# EAGLE library part HEADER_24P (library Bauteile)
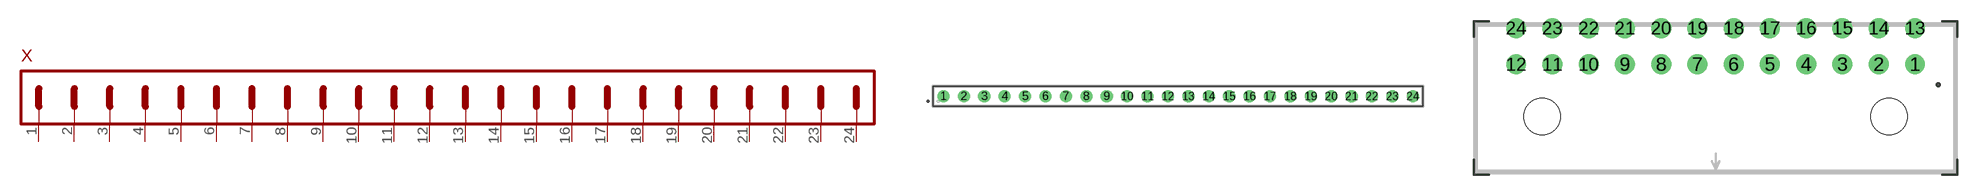
[diagram p76: symbol with the pads of HEADER_24P_1ROW_RM2.54MM_THT; footprints HEADER_24P_1ROW_RM2.54MM_THT, MOLEX_MICROFIT_3.0_43045-2400]

Designator prefix X

## HEADER_24P(RM2.54MM_1ROW_THT)  [HEADER_24P_1ROW_RM2.54MM_THT]
1  PIN1
2  PIN2
3  PIN3
4  PIN4
5  PIN5
6  PIN6
7  PIN7
8  PIN8
9  PIN9
10  PIN10
11  PIN11
12  PIN12
13  PIN13
14  PIN14
15  PIN15
16  PIN16
17  PIN17
18  PIN18
19  PIN19
20  PIN20
21  PIN21
22  PIN22
23  PIN23
24  PIN24

## HEADER_24P(MOLEX_MICROFIT_3.0_ANGLED) (ID: 43045-2400)  [MOLEX_MICROFIT_3.0_43045-2400]
Pads as for HEADER_24P_1ROW_RM2.54MM_THT

## Footprint HEADER_24P_1ROW_RM2.54MM_THT (pad centres in mm)
drill 1: 1 -29.21,0; 2 -26.67,0; 3 -24.13,0; 4 -21.59,0; 5 -19.05,0; 6 -16.51,0; 7 -13.97,0; 8 -11.43,0; 9 -8.89,0; 10 -6.35,0; 11 -3.81,0; 12 -1.27,0; 13 1.27,0; 14 3.81,0; 15 6.35,0; 16 8.89,0; 17 11.43,0; 18 13.97,0; 19 16.51,0; 20 19.05,0; 21 21.59,0; 22 24.13,0; 23 26.67,0; 24 29.21,0

## Footprint MOLEX_MICROFIT_3.0_43045-2400 (pad centres in mm)
drill 1.1: 1 16.5,-1.5; 2 13.5,-1.5; 3 10.5,-1.5; 4 7.5,-1.5; 5 4.5,-1.5; 6 1.5,-1.5; 7 -1.5,-1.5; 8 -4.5,-1.5; 9 -7.5,-1.5; 10 -10.5,-1.5; 11 -13.5,-1.5; 12 -16.5,-1.5; 13 16.5,1.5; 14 13.5,1.5; 15 10.5,1.5; 16 7.5,1.5; 17 4.5,1.5; 18 1.5,1.5; 19 -1.5,1.5; 20 -4.5,1.5; 21 -7.5,1.5; 22 -10.5,1.5; 23 -13.5,1.5; 24 -16.5,1.5
hole 3 at -14.35,-5.82
hole 3 at 14.35,-5.82